# EAGLE library part 2040210-1 (library 2040210-1)
Conn Display Port RCP 20 POS 0.5mm Solder RA Thru-Hole 20 Terminal 1 Port Tray
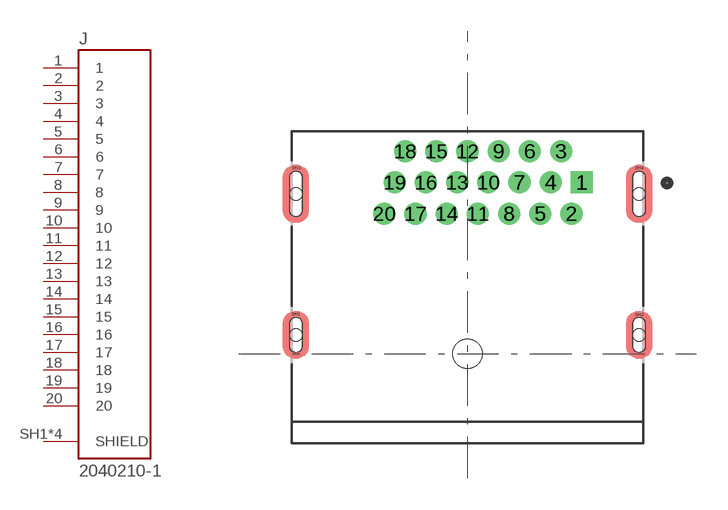
[diagram p0: symbol with the pads of TE_2040210-1; footprint TE_2040210-1]

Designator prefix J

## 2040210-1 (Availability: Good; Description: Conn Display Port RCP 20 POS 0.5mm Solder RA Thru-Hole 20 Terminal 1 Port Tray; MF: TE Connectivity; MP: 2040210-1; Package: None; Price: 1.36 USD)  [TE_2040210-1]
1  1  pas
2  2  pas
3  3  pas
4  4  pas
5  5  pas
6  6  pas
7  7  pas
8  8  pas
9  9  pas
10  10  pas
11  11  pas
12  12  pas
13  13  pas
14  14  pas
15  15  pas
16  16  pas
17  17  pas
18  18  pas
19  19  pas
20  20  pas
SH1  SHIELD  pas
SH2  SHIELD  pas
SH3  SHIELD  pas
SH4  SHIELD  pas

## Footprint TE_2040210-1 (pad centres in mm)
drill 0.55 pad 1 square: 1 5.5,8.23
drill 0.55 pad 1: 2 5,6.73; 3 4.5,9.73; 4 4,8.23; 5 3.5,6.73; 6 3,9.73; 7 2.5,8.23; 8 2,6.73; 9 1.5,9.73; 10 1,8.23; 11 0.5,6.73; 12 0,9.73; 13 -0.5,8.23; 14 -1,6.73; 15 -1.5,9.73; 16 -2,8.23; 17 -2.5,6.73; 18 -3,9.73; 19 -3.5,8.23; 20 -4,6.73
smd 0.1 x 0.1: SH1 -8.25,1.9; SH2 8.25,1.88; SH3 -8.25,8.93; SH4 8.25,8.93
hole 1.4 at 0,0
hole 0.6 at -8.25,0.9
hole 0.6 at 8.25,0.9
hole 0.6 at -8.25,7.68
hole 0.6 at 8.25,7.68